# Altium footprint library LM27762.PcbLib: 1 footprints
Each footprint in its own frame and in the unit in brackets; x right, y up, seen from the top. Pads: shape width x height; smd on the part's side, far side on the other; paste and mask are expansions set on the pad; w line width, h text height; cw(c..) or ccw(c..) is an arc to the next point about the centre after c.
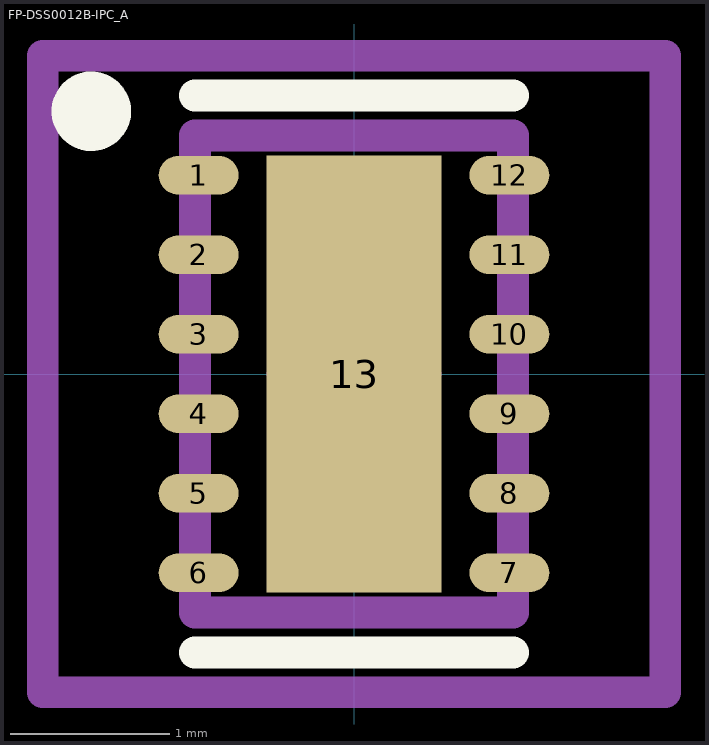
[diagram p0: the footprint, top view; thin cyan lines are the x and y axes]

## FP-DSS0012B-IPC_A [mm]
pads (13):
  oval 0.502x0.242 smd paste+0 mask+0: 1(-0.976,1.25) 2(-0.976,0.75) 3(-0.976,0.25) 4(-0.976,-0.25) 5(-0.976,-0.75) 6(-0.976,-1.25)
  rrect100% 0.502x0.242 smd paste+0 mask+0: 7(0.976,-1.25) 8(0.976,-0.75) 9(0.976,-0.25) 10(0.976,0.25) 11(0.976,0.75) 12(0.976,1.25)
  rect 1.1x2.75 smd paste-1000 mask+0: 13(0,0)
Top Overlay:
  circle w0.25: c-1.651,1.651 r0.125
  lines w0.2: -1,-1.75 1,-1.75 ; -1,1.75 1,1.75
Top Paste:
  rectangle: -0.275,-1.1 0.275,1.1
Top Assembly:
  lines w0.2: -1.956,-2 1.956,-2 1.956,2 -1.956,2 -1.956,-2
Top 3D Body:
  lines w0.2: -1,-1.5 1,-1.5 1,1.5 -1,1.5 -1,-1.5
Top Component Center:
  lines w0.1: -0.5,0 0.5,0 ; 0,-0.5 0,0.5
3D body "IC_Texas_Instruments_LM27762DSSR_eec.STEP": height 0.25, standoff 0, extent -1.956,-2 1.956,2